# EAGLE library part SW-SPDT (library Lusan)
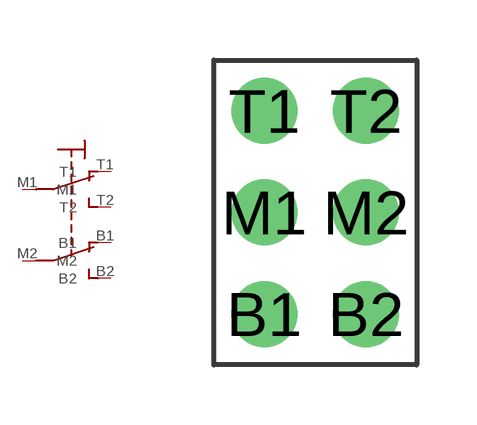
[diagram p1: symbol with the pads of 3*2FH; footprint 3*2FH]

Designator prefix -

## SW-SPDT  [3*2FH]
B1  B1
B2  B2
M1  M1
M2  M2
T1  T1
T2  T2

## Footprint 3*2FH (pad centres in mm)
drill 1.1: B1 -1.27,-5.08; B2 1.27,-5.08; M1 -1.27,-2.54; M2 1.27,-2.54; T1 -1.27,0; T2 1.27,0